# EAGLE library part MOTOR_SHIELD (library MARK)
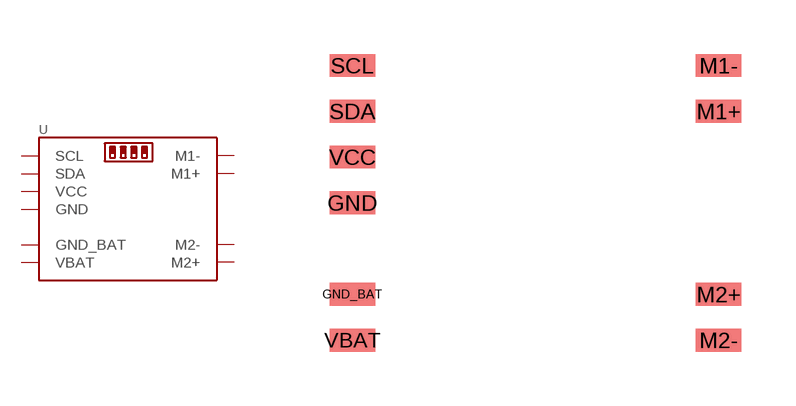
[diagram p2: symbol with the pads of MOTOR_SHIELD; footprint MOTOR_SHIELD]

Designator prefix -

## MOTOR_SHIELD  [MOTOR_SHIELD]
GND  GND
GND_BAT  GND_BAT
M1+  M1+
M1-  M1-
M2+  M2+
M2-  M2-
SCL  SCL
SDA  SDA
VBAT  VBAT
VCC  VCC

## Footprint MOTOR_SHIELD (pad centres in mm)
smd 1.27 x 0.635: GND -5.08,2.54; GND_BAT -5.08,0; M1+ 5.08,5.08; M1- 5.08,6.35; M2+ 5.08,0; M2- 5.08,-1.27; SCL -5.08,6.35; SDA -5.08,5.08; VBAT -5.08,-1.27; VCC -5.08,3.81